# EAGLE library part 2091-1308 (library con-wago_3.5 mm)
Serie 2091, Federleiste mit geraden Lötstiften 8-polig / Series 2091, Female header with straight solder pins 8-pole Polzahl / Pole No.: 8 Rastermaß / Pitch: 3.5 mm Bemessungsspannung / Rated Voltage: 160 V Nennstrom / Nominal Current: 10 A Lötstiftlänge: / Solder Pin Length: 3.6 mm Farbe / Color: lichtgrau / light gray Stand: 01.01.2013. Die jeweils aktuellen Daten zu diesem Artikel finden Sie in unserem Produktkatalog, den Sie unter www.wago.com einsehen können. As of: 01/01/2013. Please find the newest data for this article in our product catalogue, which can be viewed under www.wago.com.
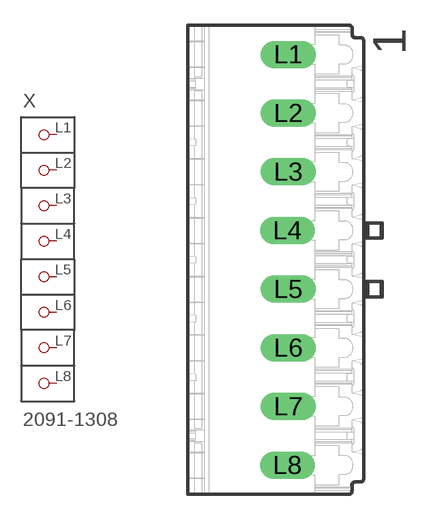
[diagram p18: symbol with the pads of P-2091-1308; footprint P-2091-1308]

Designator prefix X

## 2091-1308  [P-2091-1308]
L1  P1
L2  P2
L3  P3
L4  P4
L5  P5
L6  P6
L7  P7
L8  P8

## Footprint P-2091-1308 (pad centres in mm)
drill 1.1 long: L1 0.203,12.245; L2 0.203,8.745; L3 0.203,5.245; L4 0.153,1.745; L5 0.203,-1.755; L6 0.203,-5.255; L7 0.203,-8.755; L8 0.153,-12.255